# Altium schematic symbol library jack_3.5_smd_stereo_ebay_hongkongsuperseller.SchLib: 1 symbol
Pins are listed as number, name and electrical type; pins without a type are passive.

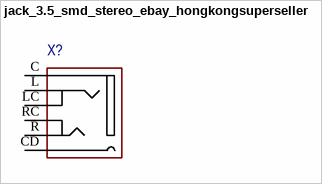
[diagram p0: symbol jack_3.5_smd_stereo_ebay_hongkongsuperseller]

## jack_3.5_smd_stereo_ebay_hongkongsuperseller
designator X?  (value not drawn)
ManufacturerPartNumber: ManufacturerPartNumber
pins: C, CD "this pin connects to C if jack is inserted", L, LC, R, RC